# EAGLE library part LTC2301 (library DSDEagleLibrary)
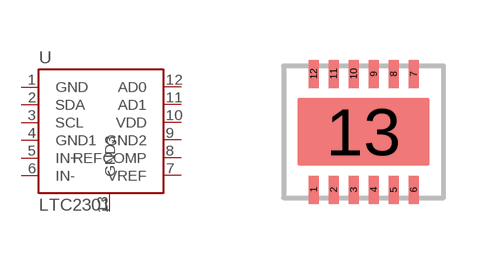
[diagram p20: symbol with the pads of LTC2301; footprint LTC2301]

Designator prefix -

## LTC2301  [LTC2301]
1  GND
2  SDA
3  SCL
4  GND1
5  IN+
6  IN-
7  VREF
8  REFCOMP
9  GND2
10  VDD
11  AD1
12  AD0
13  GND3

## Footprint LTC2301 (pad centres in mm)
smd 0.25 x 0.7: 1 0,0; 2 0.5,0; 3 1,0; 4 1.5,0; 5 2,0; 6 2.5,0; 7 2.5,2.9; 8 2,2.9; 9 1.5,2.9; 10 1,2.9; 11 0.5,2.9; 12 0,2.9
smd 3.3 x 1.7: 13 1.25,1.45